# EAGLE library part ADR43X (library LinearComponents)
ADR43x Precision Voltage reference
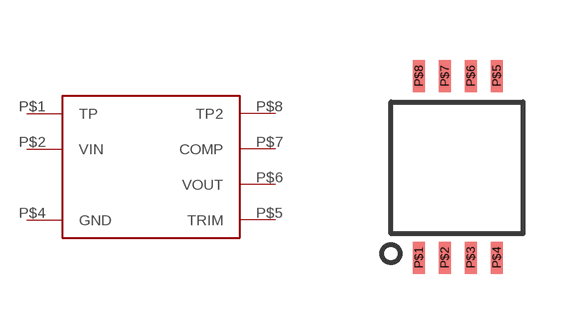
[diagram p0: symbol with the pads of MSOP8; footprint MSOP8]

Designator prefix -

## ADR43X  [MSOP8]
P$1  TP
P$2  VIN
P$4  GND
P$5  TRIM
P$6  VOUT
P$7  COMP
P$8  TP2

## Footprint MSOP8 (pad centres in mm)
smd 0.3 x 0.8: P$1 -0.9,-2.2; P$2 -0.25,-2.2; P$3 0.4,-2.2; P$4 1.05,-2.2; P$5 1.05,2.35; P$6 0.4,2.35; P$7 -0.25,2.35; P$8 -0.9,2.35